# Altium footprint library FET.PcbLib: 3 footprints
Each footprint in its own frame and in the unit in brackets; x right, y up, seen from the top. Pads: shape width x height; smd on the part's side, far side on the other; paste and mask are expansions set on the pad; w line width, h text height; cw(c..) or ccw(c..) is an arc to the next point about the centre after c.
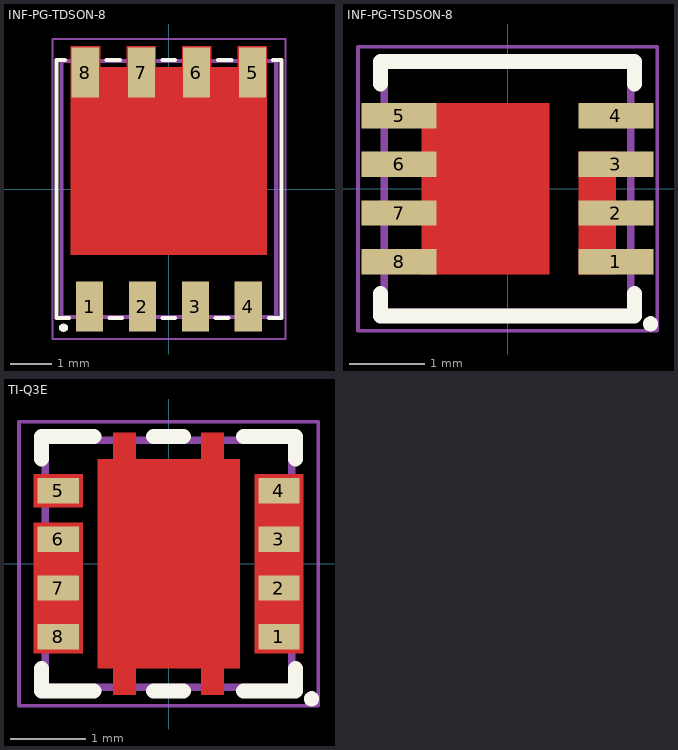
[diagram p0: the footprints below, top view; thin cyan lines are the x and y axes]

## INF-PG-TDSON-8 [mm] "TDSON, 8-Leads, Body 6.15x5.15mm, Pitch 1.27mm"
height 1
pads (8):
  rect 0.65x1.2 smd: 1(-1.905,-2.825) 2(-0.635,-2.825) 3(0.635,-2.825) 4(1.905,-2.825) 5(2.007,2.794) 6(0.66,2.794) 7(-0.66,2.794) 8(-2.007,2.794)
Top Layer:
  region: -2.35,2.925 -2.35,-1.575 2.35,-1.575 2.35,2.925
  region: -2.35,2.925 -1.65,2.925 -1.65,3.425 -2.35,3.425
  region: 1.65,2.925 2.35,2.925 2.35,3.425 1.65,3.425
  region: -1.015,2.925 -0.315,2.925 -0.315,3.425 -1.015,3.425
  region: 0.315,2.925 1.015,2.925 1.015,3.425 0.315,3.425
Top Overlay:
  region: -2.629,-3.329 -2.629,-3.349 -2.614,-3.386 -2.586,-3.414 -2.549,-3.429 -2.529,-3.429 -2.509,-3.429 -2.473,-3.414 -2.445,-3.386 -2.429,-3.349 -2.429,-3.329 -2.429,-3.309 -2.445,-3.273 -2.473,-3.245 -2.509,-3.229 -2.529,-3.229 -2.549,-3.229 -2.586,-3.245 -2.614,-3.273 -2.629,-3.309
  lines w0.1: -2.5,3.1 -2.7,3.1 -2.7,-3.1 -2.4,-3.1 ; -1.5,3.1 -1.175,3.1 ; -1.425,-3.1 -1.125,-3.1 ; -0.15,-3.1 0.15,-3.1 ; -0.15,3.1 0.15,3.1 ; 1.125,-3.1 1.425,-3.1 ; 1.175,3.1 1.5,3.1 ; 2.4,-3.1 2.7,-3.1 2.7,3.1 2.5,3.1
Top Paste:
  region: 2.325,0.655 2.325,2.2 0.325,2.2 0.325,0.655
  region: 2.35,-1.575 2.35,-0.03 0.35,-0.03 0.35,-1.575
  region: -0.35,-1.575 -0.35,-0.03 -2.35,-0.03 -2.35,-1.575
  region: -0.325,0.655 -0.325,2.2 -2.325,2.2 -2.325,0.655
Mechanical 13:
  lines w0.1: -2.575,-3.075 -2.575,3.075 2.575,3.075 2.575,-3.075 -2.575,-3.075
Mechanical 15:
  lines w0.05: -2.795,-3.6 -2.795,3.6 2.8,3.6 2.8,-3.6 -2.795,-3.6
  text ".Designator" at -1.2,-3.2 h1.5
3D body "User Library-TDSON-8 (INFIN).step": height 1.15, standoff 0.04, extent -2.795,-3.175 2.795,3.175

## INF-PG-TSDSON-8 [mm] "TDSON, 8-Leads, Body 6.15x5.15mm, Pitch 1.27mm"
height 1
pads (8):
  rect 1x0.34 smd mask+0: 1(1.45,-0.975) 2(1.45,-0.325) 3(1.45,0.325) 4(1.45,0.975) 5(-1.45,0.975) 6(-1.45,0.325) 7(-1.45,-0.325) 8(-1.45,-0.975)
Top Layer:
  rectangle: -1.15,-1.145 0.56,1.145
  rectangle: 0.95,-1.145 1.45,0.5
Top Overlay:
  region: 1.912,-1.908 1.932,-1.908 1.968,-1.892 1.997,-1.864 2.012,-1.827 2.012,-1.808 2.012,-1.788 1.997,-1.751 1.968,-1.723 1.932,-1.708 1.912,-1.708 1.892,-1.708 1.855,-1.723 1.827,-1.751 1.812,-1.788 1.812,-1.808 1.812,-1.827 1.827,-1.864 1.855,-1.892 1.892,-1.908
  lines w0.2: -1.7,-1.4 -1.7,-1.7 1.7,-1.7 1.7,-1.4 ; -1.7,1.4 -1.7,1.7 1.7,1.7 1.7,1.4
Top Paste:
  rectangle: -0.6,0.5 0.5,1.1
  rectangle: -0.6,-1.1 0.5,-0.5
  rectangle: -0.6,-0.3 0.5,0.3
Mechanical 13:
  lines w0.1: -1.65,-1.65 1.65,-1.65 1.65,1.65 -1.65,1.65 -1.65,-1.65
Mechanical 15:
  lines w0.05: -2,-1.9 2,-1.9 2,1.9 -2,1.9 -2,-1.9
  text ".Designator" at -1.8,-0.2 h0.8
3D body "User Library-MLP-3_3x3_3-1.STEP": height 0.8, standoff 0, extent -1.65,-1.65 1.65,1.65

## TI-Q3E [mm] "TDSON, 8-Leads, Body 6.15x5.15mm, Pitch 1.27mm"
height 1
pads (8):
  rect 0.55x0.34 smd mask+0: 1(1.475,-0.975) 2(1.475,-0.325) 3(1.475,0.325) 4(1.475,0.975) 5(-1.475,0.975) 6(-1.475,0.325) 7(-1.475,-0.325) 8(-1.475,-0.975)
Top Layer:
  region: -1.8,-1.2 -1.15,-1.2 -1.15,0.545 -1.8,0.545
  region: 1.8,-1.2 1.15,-1.2 1.15,1.195 1.8,1.195
  region: -1.8,0.755 -1.15,0.755 -1.15,1.195 -1.8,1.195
  region: -0.95,1.4 -0.74,1.4 -0.74,1.75 -0.44,1.75 -0.44,1.4 0.44,1.4 0.44,1.75 0.74,1.75 0.74,1.4 0.95,1.4 0.95,-1.4 0.74,-1.4 0.74,-1.75 0.44,-1.75 0.44,-1.4 -0.44,-1.4 -0.44,-1.75 -0.74,-1.75 -0.74,-1.4 -0.95,-1.4
Top Overlay:
  region: 1.912,-1.908 1.932,-1.908 1.968,-1.892 1.997,-1.864 2.012,-1.827 2.012,-1.808 2.012,-1.788 1.997,-1.751 1.968,-1.723 1.932,-1.708 1.912,-1.708 1.892,-1.708 1.855,-1.723 1.827,-1.751 1.812,-1.788 1.812,-1.808 1.812,-1.827 1.827,-1.864 1.855,-1.892 1.892,-1.908
  lines w0.2: -1.7,-1.4 -1.7,-1.7 -1,-1.7 ; -1.7,1.4 -1.7,1.7 -1,1.7 ; -0.2,-1.7 0.2,-1.7 ; -0.2,1.7 0.2,1.7 ; 1,-1.7 1.7,-1.7 1.7,-1.4 ; 1,1.7 1.7,1.7 1.7,1.4
Top Paste:
  rectangle: 0.15,0.633 0.85,1.299
  region: -0.15,1.299 -0.85,1.299 -0.85,0.633 -0.15,0.633
  rectangle: 0.15,-1.299 0.85,-0.633
  region: -0.15,-0.633 -0.85,-0.633 -0.85,-1.299 -0.15,-1.299
  region: -0.15,0.333 -0.85,0.333 -0.85,-0.333 -0.15,-0.333
  rectangle: 0.15,-0.333 0.85,0.333
Mechanical 13:
  lines w0.1: -1.65,-1.65 -1.65,1.65 1.65,1.65 1.65,-1.65 -1.65,-1.65
Mechanical 15:
  lines w0.05: -2,-1.9 -2,1.9 2,1.9 2,-1.9 -2,-1.9
  text ".Designator" at -1.8,-0.2 h0.8
3D body "User Library-MLP-3_3x3_3-1.STEP": height 0.8, standoff 0, extent -1.65,-1.65 1.65,1.65